# EAGLE library part STSPUJ122 (library HermitRetro)
STSPUJ122 DPDT Latching Switch
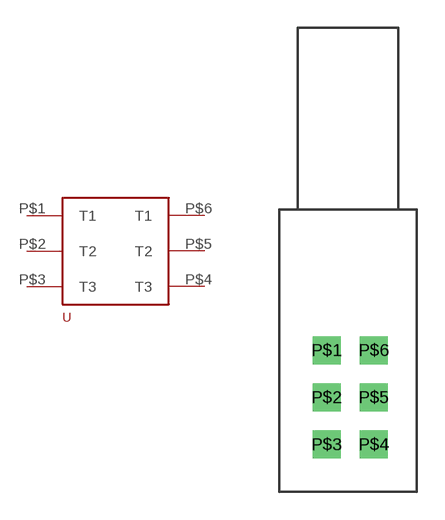
[diagram p31: symbol with the pads of STSPUJ122; footprint STSPUJ122]

Designator prefix -

## STSPUJ122 (UNIT_PRICE: 0.51; VENDOR_ID: RS Components; VENDOR_SKU: 283-9490)  [STSPUJ122]
P$1  T1
P$2  T2
P$3  T3
P$4  T3
P$5  T2
P$6  T1

## Footprint STSPUJ122 (pad centres in mm)
drill 1 square: P$1 2.54,7.62; P$2 2.54,5.08; P$3 2.54,2.54; P$4 5.08,2.54; P$5 5.08,5.08; P$6 5.08,7.62